# EAGLE library part EXO-3 (library Oscillator)
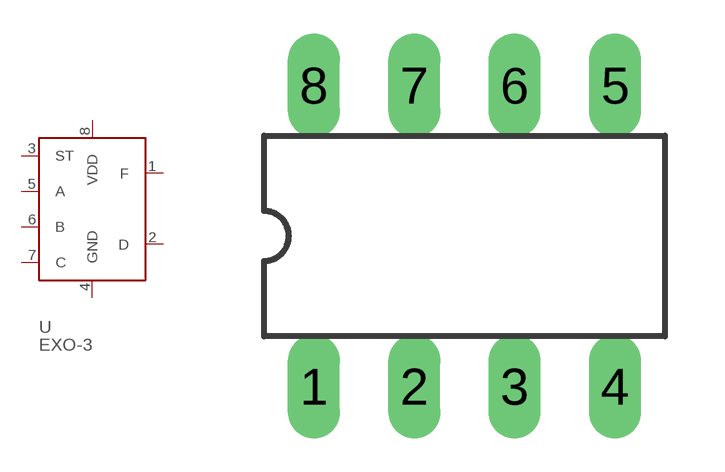
[diagram p0: symbol with the pads of DIL8; footprint DIL8]

Designator prefix -

## EXO-3  [DIL8]
1  F  out
2  D  out
3  ST  pas
4  GND  in
5  A  pas
6  B  pas
7  C  pas
8  VDD  in

## Footprint DIL8 (pad centres in mm)
drill 0.813 long: 1 -3.81,-3.81; 2 -1.27,-3.81; 3 1.27,-3.81; 4 3.81,-3.81; 5 3.81,3.81; 6 1.27,3.81; 7 -1.27,3.81; 8 -3.81,3.81